# Altium schematic symbol library WL-VCSL.SchLib: 4 symbols
Pins are listed as number, name and electrical type; pins without a type are passive.

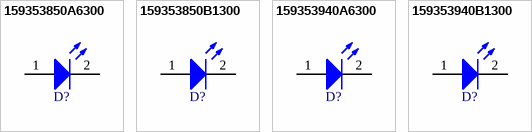
[diagram p0: symbols 159353850A6300 to 159353940B1300]

## 159353850A6300
designator D?, comment Infrared, 2.1V, 60° x 45°  (value not drawn)
WL-VCSL Vertical Cavity Surface Emitting Laser, SMT, size 3535, Infrared, 2.1V, 60° x 45°; Manufacturer Part Number: 159353850A6300; Manufacturer: Wurth Elektronik; Case/Size Code: 3535; Peak Wavelength: 850nm; Radiant Flux: 2100mW; Category: Laser; Match Code: WL-VCSL; ComponentLink1Description: Website Link; ComponentLink1URL: https://www.we-online.com/redexpert/article/159353850A6300?ad; ComponentLink2Description: Datasheet Link; ComponentLink2URL: https://www.we-online.com/redexpert/spec/159353850A6300?ad; Mount: Surface Mount; Operating Temperature Max: 85°C; Operating Temperature Min: -20°C; Packaging: Tape and Reel; Length: 3.5mm; Width: 3.5mm; Height: 1.77mm; Emitting Color: Infrared; Forward Voltage: 2.1V; Viewing Angle (X-Axis): 60°; Viewing Angle (Y-Axis): 45°
footprint WL-VCSL_3535
simulation model 3535_159353850A6300
pins: 1 A, 2 K

## 159353850B1300
designator D?, comment Infrared, 2.1V, 110° x 85°  (value not drawn)
WL-VCSL Vertical Cavity Surface Emitting Laser, SMT, size 3535, Infrared, 2.1V, 110° x 85°; Manufacturer Part Number: 159353850B1300; Manufacturer: Wurth Elektronik; Case/Size Code: 3535; Peak Wavelength: 850nm; Radiant Flux: 2100mW; Category: Laser; Match Code: WL-VCSL; ComponentLink1Description: Website Link; ComponentLink1URL: https://www.we-online.com/redexpert/article/159353850B1300?ad; ComponentLink2Description: Datasheet Link; ComponentLink2URL: https://www.we-online.com/redexpert/spec/159353850B1300?ad; Mount: Surface Mount; Operating Temperature Max: 85°C; Operating Temperature Min: -20°C; Packaging: Tape and Reel; Length: 3.5mm; Width: 3.5mm; Height: 1.77mm; Emitting Color: Infrared; Forward Voltage: 2.1V; Viewing Angle (X-Axis): 110°; Viewing Angle (Y-Axis): 85°
footprint WL-VCSL_3535
simulation model 3535_159353850B1300
pins: 1 A, 2 K

## 159353940A6300
designator D?, comment Infrared, 2V, 60° x 45°  (value not drawn)
WL-VCSL Vertical Cavity Surface Emitting Laser, SMT, size 3535, Infrared, 2V, 60° x 45°; Manufacturer Part Number: 159353940A6300; Manufacturer: Wurth Elektronik; Case/Size Code: 3535; Peak Wavelength: 940nm; Radiant Flux: 1900mW; Category: Laser; Match Code: WL-VCSL; ComponentLink1Description: Website Link; ComponentLink1URL: https://www.we-online.com/redexpert/article/159353940A6300?ad; ComponentLink2Description: Datasheet Link; ComponentLink2URL: https://www.we-online.com/redexpert/spec/159353940A6300?ad; Mount: Surface Mount; Operating Temperature Max: 85°C; Operating Temperature Min: -20°C; Packaging: Tape and Reel; Length: 3.5mm; Width: 3.5mm; Height: 1.77mm; Emitting Color: Infrared; Forward Voltage: 2V; Viewing Angle (X-Axis): 60°; Viewing Angle (Y-Axis): 45°
footprint WL-VCSL_3535
simulation model 3535_159353940A6300
pins: 1 A, 2 K

## 159353940B1300
designator D?, comment Infrared, 2V, 110° x 85°  (value not drawn)
WL-VCSL Vertical Cavity Surface Emitting Laser, SMT, size 3535, Infrared, 2V, 110° x 85°; Manufacturer Part Number: 159353940B1300; Manufacturer: Wurth Elektronik; Case/Size Code: 3535; Peak Wavelength: 940nm; Radiant Flux: 1800mW; Category: Laser; Match Code: WL-VCSL; ComponentLink1Description: Website Link; ComponentLink1URL: https://www.we-online.com/redexpert/article/159353940B1300?ad; ComponentLink2Description: Datasheet Link; ComponentLink2URL: https://www.we-online.com/redexpert/spec/159353940B1300?ad; Mount: Surface Mount; Operating Temperature Max: 85°C; Operating Temperature Min: -20°C; Packaging: Tape and Reel; Length: 3.5mm; Width: 3.5mm; Height: 1.77mm; Emitting Color: Infrared; Forward Voltage: 2V; Viewing Angle (X-Axis): 110°; Viewing Angle (Y-Axis): 85°
footprint WL-VCSL_3535
simulation model 3535_159353940B1300
pins: 1 A, 2 K